# Altium footprint library MOLEX_2165712002.PcbLib: 1 footprints
Each footprint in its own frame and in the unit in brackets; x right, y up, seen from the top. Pads: shape width x height; smd on the part's side, far side on the other; paste and mask are expansions set on the pad; w line width, h text height; cw(c..) or ccw(c..) is an arc to the next point about the centre after c.
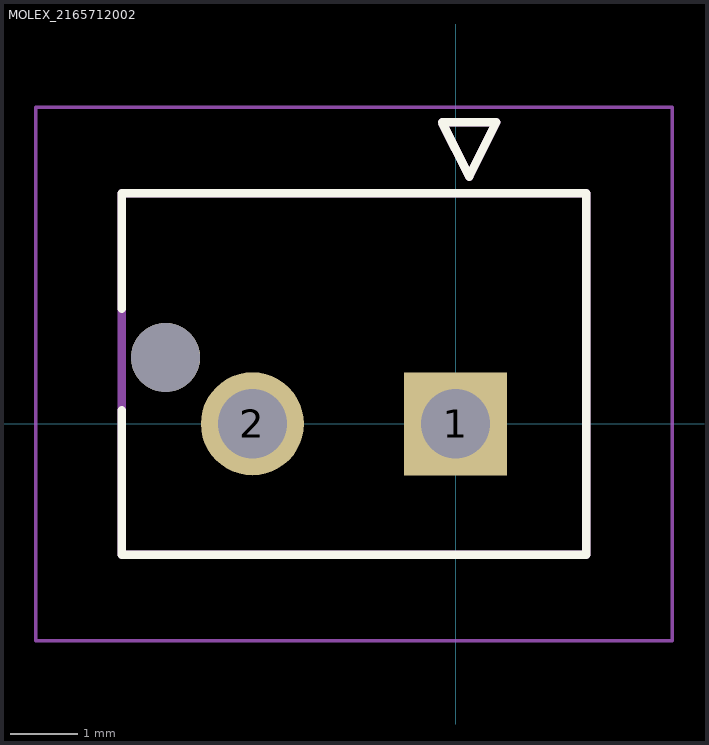
[diagram p0: the footprint, top view; thin cyan lines are the x and y axes]

## MOLEX_2165712002 [mm]
height 9.91
pads (3):
  rect 1.52x1.52 hole 1.02 mask+0.076: 1(0,0)
  round 1.52 hole 1.02 mask+0.076: 2(-3,0)
  round 1.02 hole 1.02 unplated mask+0.076: ""(-4.28,0.98)
Top Overlay:
  lines w0.127: -4.925,0.2 -4.925,-1.93 1.925,-1.93 1.925,3.4 -4.925,3.4 -4.925,1.7 ; -0.2,4.45 0.6,4.45 0.2,3.65 -0.2,4.45
Mechanical 13:
  lines w0.127: -4.925,-1.93 1.925,-1.93 1.925,3.4 -4.925,3.4 -4.925,-1.93 ; -0.2,4.45 0.6,4.45 0.2,3.65 -0.2,4.45
Mechanical 15:
  lines w0.05: -6.195,-3.2 3.195,-3.2 3.195,4.67 -6.195,4.67 -6.195,-3.2